# Altium schematic symbol library 19.SchLib: 12 symbols
Pins are listed as number, name and electrical type; pins without a type are passive.

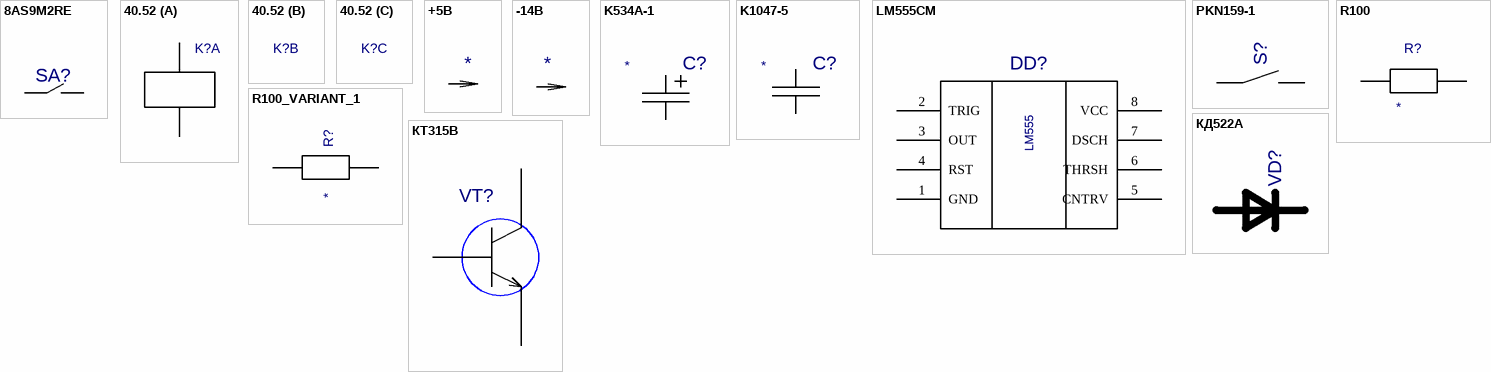
[diagram p0: symbols 8AS9M2RE to КТ315В]

## 8AS9M2RE
designator SA?  (value not drawn)
Value: *
footprint 8AS9M2RE
pins: 1, 2

## 40.52
designator K?  (value not drawn)
Value: *
footprint К40.52
part A pins: A1 1, A2 2

## +5B
designator PWR?  (value not drawn)
Value: *
pins: 1 +5B (power)

## -14B
designator PWR?  (value not drawn)
Value: *
pins: 1 -14B (power)

## K534A-1
designator C?  (value not drawn)
Value: *
footprint K534A-1
pins: 1 I/OA, 2 I/OB

## K1047-5
designator C?  (value not drawn)
Value: *
footprint K1047-5
pins: 1 I/OA, 2 I/OB

## LM555CM
designator DD?  (value not drawn)
Value: *
footprint SO-8
pins: 1 GND, 2 TRIG, 3 OUT, 4 RST, 5 CNTRV, 6 THRSH, 7 DSCH, 8 VCC
text: LM555

## PKN159-1
designator S?  (value not drawn)
Value: *
footprint PKN159-1
pins: 1 I/O1, 2 I/O2

## R100
designator R?  (value not drawn)
Value: *
footprint R100
pins: 1, 2

## R100_VARIANT_1
designator R?, comment R100  (value not drawn)
R100_VARIANT_1; Value: *
footprint R100
pins: 1, 2

## КД522А
designator VD?  (value not drawn)
Value: *
footprint КД521(522)
pins: 1 A, 2 K

## КТ315В
designator VT?  (value not drawn)
Value: *
footprint KT13
pins: 1 E, 2 B, 3 K